# Altium schematic symbol library RC0603FR-07680RL.SchLib: 2 symbols
Pins are listed as number, name and electrical type; pins without a type are passive.

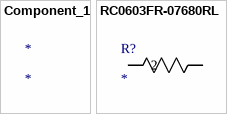
[diagram p0: symbols Component_1 to RC0603FR-07680RL]

## Component_1
designator *

## RC0603FR-07680RL
designator R?
No Description Available; Mfr_Name: Yageo
footprint RC0603N_YAG
pins: 1, 2